# Altium footprint library MOV_5MM.PcbLib: 1 footprints
Each footprint in its own frame and in the unit in brackets; x right, y up, seen from the top. Pads: shape width x height; smd on the part's side, far side on the other; paste and mask are expansions set on the pad; w line width, h text height; cw(c..) or ccw(c..) is an arc to the next point about the centre after c.
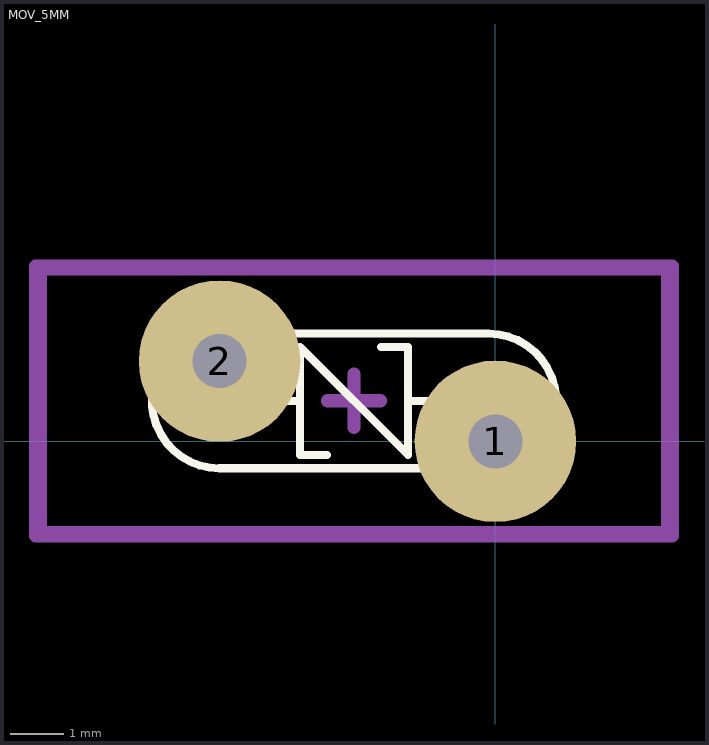
[diagram p0: the footprint, top view; thin cyan lines are the x and y axes]

## MOV_5MM [mil]
pads (2):
  round 120 hole 40: 1(0,0) 2(-204.8,59.53)
Top Overlay:
  lines w6: -205,30 -145,30 ; -125,-10 -145,-10 -145,70 -65,-10 -65,70 -85,70 ; -65,30 -5,30 ; -205,-20 cw(c-205,30) -205,80 -5,80 cw(c-5,30) -5,-20 -205,-20
Top Assembly:
  lines w3.94: -335,-65 125,-65 125,125 -335,125 -335,-65
Top Courtyard:
  lines w10: -124.69,30 -85.31,30 ; -105,10.31 -105,49.69 ; -341.22,-70 -341.22,130 131.22,130 131.22,-70 -341.22,-70
3D body "User Library-Warystor_5mm.step": height 393.7, standoff -101.06, extent -268.49,-59.54 61.6,127.04